# Altium schematic symbol library OLED_1.3inch_I2C.SchLib: 1 symbol
Pins are listed as number, name and electrical type; pins without a type are passive.

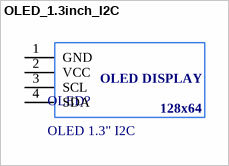
[diagram p0: symbol OLED_1.3inch_I2C]

## OLED_1.3inch_I2C
designator OLED?, comment OLED 1.3" I2C
pins: 1 GND, 2 VCC, 3 SCL, 4 SDA
text: OLED DISPLAY; 128x64